# Altium schematic symbol library optocoupler_high-linearity.SchLib: 6 symbols
Pins are listed as number, name and electrical type; pins without a type are passive.

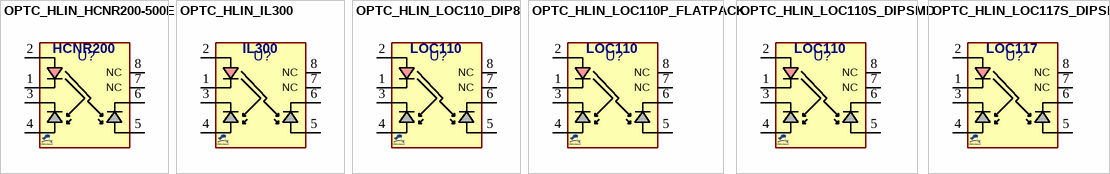
[diagram p0: symbols OPTC_HLIN_HCNR200-500E to OPTC_HLIN_LOC117S_DIPSMD]

## OPTC_HLIN_HCNR200-500E
designator U?, comment HCNR200  (value not drawn)
OPTOCOUPLER, high-Linearity Analog; MANF: Broadcom/AVAGO; MANF_P#: HCNR200-500E; PARAM2: 5KVrms ISO; PARAM: 25mA, 0.01%, BW 1MHz, K3 ±15%; VALUE: HCNR200; PACKAGE: DIPSMD-8
footprint DIP_8SMD (DIP8 SMD Package)
pins: 1 LED- "Anode", 2 LED+ "Cathode", 3 C1 "Emitter", 4 A1 "Collector", 5 A2 "Collector", 6 C2 "Emitter", 7 NC1 "Collector", 8 NC2 "Collector"
text: NC

## OPTC_HLIN_IL300
designator U?, comment IL300  (value not drawn)
OPTOCOUPLER, high-Linearity Analog; MANF: VISHAY; MANF_P#: IL300-X009T; PARAM2: 5KVrms ISO; PARAM: BW 1MHz; VALUE: IL300; PACKAGE: DIPSMD-8
footprint DIP_8SMD (DIP8 SMD Package)
pins: 1 LED- "Anode", 2 LED+ "Cathode", 3 C1 "Emitter", 4 A1 "Collector", 5 A2 "Collector", 6 C2 "Emitter", 7 NC1 "Collector", 8 NC2 "Collector"
text: NC

## OPTC_HLIN_LOC110_DIP8
designator U?, comment LOC110  (value not drawn)
OPTOCOUPLER, high-Linearity Analog; MANF: Littelfuse/IXYS; PARAM2: 3.75KVrms ISO; PARAM: 2~10mA, 0.01%, BW 200kHz; MANF_P#: LOC110; VALUE: LOC110; PACKAGE: DIP-8
footprint DIP_8 (DIP, pitch 2.54mm, 300mil Width)
pins: 1 LED- "Anode", 2 LED+ "Cathode", 3 C1 "Emitter", 4 A1 "Collector", 5 A2 "Collector", 6 C2 "Emitter", 7 NC1 "Collector", 8 NC2 "Collector"
text: NC

## OPTC_HLIN_LOC110P_FLATPACK
designator U?, comment LOC110P  (value not drawn)
OPTOCOUPLER, high-Linearity Analog; MANF: Littelfuse/IXYS; PARAM2: 3.75KVrms ISO; PARAM: 2~10mA, 0.01%, BW 200kHz; MANF_P#: LOC110P; VALUE: LOC110P; PACKAGE: Flatpack-8
footprint DIP_8FLATPAK (Flatpack-8 SMD)
pins: 1 LED- "Anode", 2 LED+ "Cathode", 3 C1 "Emitter", 4 A1 "Collector", 5 A2 "Collector", 6 C2 "Emitter", 7 NC1 "Collector", 8 NC2 "Collector"
text: LOC110; NC

## OPTC_HLIN_LOC110S_DIPSMD
designator U?, comment LOC110S  (value not drawn)
OPTOCOUPLER, high-Linearity Analog; MANF: Littelfuse/IXYS; PARAM2: 3.75KVrms ISO; PARAM: 2~10mA, 0.01%, BW 200kHz; MANF_P#: LOC110S; VALUE: LOC110S; PACKAGE: DIPSMD-8
footprint DIP_8SMD (DIP8 SMD Package)
pins: 1 LED- "Anode", 2 LED+ "Cathode", 3 C1 "Emitter", 4 A1 "Collector", 5 A2 "Collector", 6 C2 "Emitter", 7 NC1 "Collector", 8 NC2 "Collector"
text: LOC110; NC

## OPTC_HLIN_LOC117S_DIPSMD
designator U?, comment LOC117S  (value not drawn)
OPTOCOUPLER, high-Linearity Analog; MANF: Littelfuse/IXYS; PARAM2: 3.75KVrms ISO; PARAM: 2~10mA, 0.01%, BW 200kHz; MANF_P#: LOC117S; VALUE: LOC117S; PACKAGE: DIPSMD-8
footprint DIP_8SMD (DIP8 SMD Package)
pins: 1 LED- "Anode", 2 LED+ "Cathode", 3 C1 "Emitter", 4 A1 "Collector", 5 A2 "Collector", 6 C2 "Emitter", 7 NC1 "Collector", 8 NC2 "Collector"
text: LOC117; NC